# EAGLE library part BM10NB(0.8)-16DS-0.4V(51) (library thanics-connector)
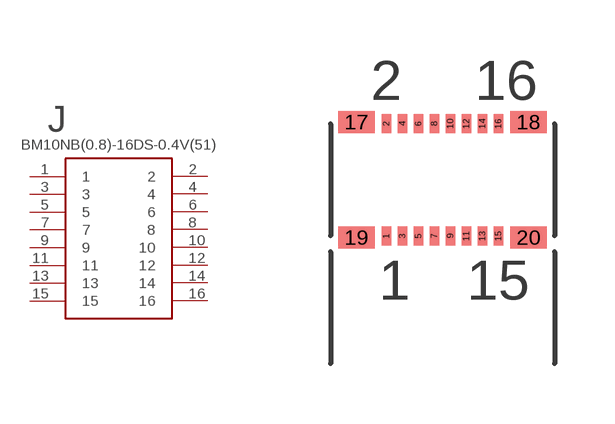
[diagram p2: symbol with the pads of BM10NB(0.8)-16DS-0.4V(51); footprint BM10NB(0.8)-16DS-0.4V(51)]

Designator prefix J

## BM10NB(0.8)-16DS-0.4V(51)  [BM10NB(0.8)-16DS-0.4V(51)]
1  1
2  2
3  3
4  4
5  5
6  6
7  7
8  8
9  9
10  10
11  11
12  12
13  13
14  14
15  15
16  16

## Footprint BM10NB(0.8)-16DS-0.4V(51) (pad centres in mm)
smd 0.23 x 0.47: 1 -1.4,-1.405; 2 -1.4,1.405; 3 -1,-1.405; 4 -1,1.405; 5 -0.6,-1.405; 6 -0.6,1.405; 7 -0.2,-1.405; 8 -0.2,1.405; 9 0.2,-1.405; 10 0.2,1.405; 11 0.6,-1.405; 12 0.6,1.405; 13 1,-1.405; 14 1,1.405; 15 1.4,-1.405; 16 1.4,1.405
smd 0.92 x 0.55: 17 -2.15,1.445; 18 2.15,1.445; 19 -2.15,-1.445; 20 2.15,-1.445